# EAGLE library part MA07-1 (library con-lstb)
PIN HEADER
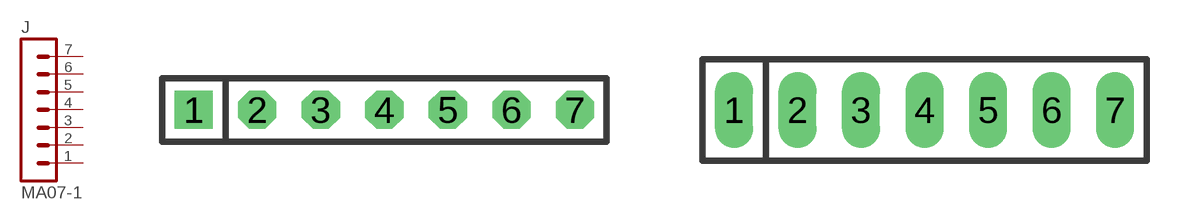
[diagram p10: symbol with the pads of MA07-1; footprints MA07-1, MA07-1Y]

Designator prefix J

## MA07-1  [MA07-1]
1  1  pas
2  2  pas
3  3  pas
4  4  pas
5  5  pas
6  6  pas
7  7  pas

## MA07-1Y  [MA07-1Y]
Pads as for MA07-1

## Footprint MA07-1 (pad centres in mm)
PIN HEADER
drill 1.016 square: 1 -7.62,0
drill 1.016 octagon: 2 -5.08,0; 3 -2.54,0; 4 0,0; 5 2.54,0; 6 5.08,0; 7 7.62,0

## Footprint MA07-1Y (pad centres in mm)
PIN HEADER
drill 1.016 long: 1 -7.62,0; 2 -5.08,0; 3 -2.54,0; 4 0,0; 5 2.54,0; 6 5.08,0; 7 7.62,0